# Altium integrated library NSC ADC.IntLib: 191 symbols (part 7 of 7)
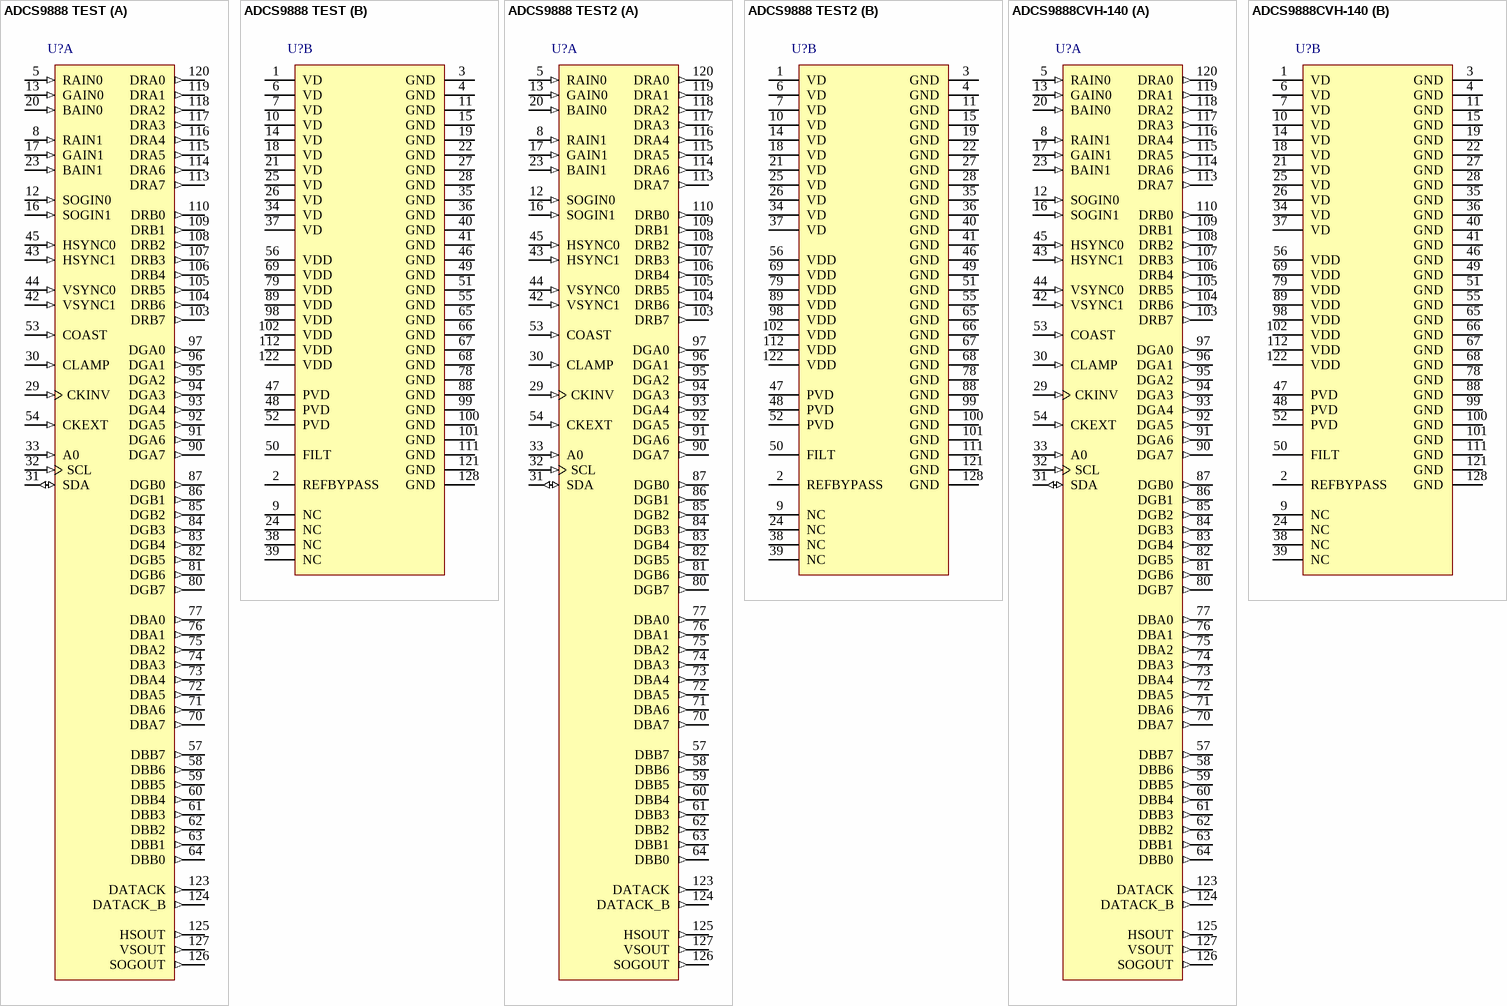
[diagram p21: symbols ADCS9888 TEST to ADCS9888CVH-140]

## ADCS9888 TEST2
designator U?
205/170/140 MSPS Video Analog Front End; PartNumber: ADCS9888 TEST2; Manufacturer: National Semiconductor; CompType: ADC IC; PackageTopMarking: NSUZXYYTTE#*ADCS9888 TEST2; Published: 4-Dec-2008; DatasheetVersion: Jun-2007; PackageVersion: revC, Jun-1998; PackageReference: VLA128A; Publisher: Altium Limited; PackageDescription: PQFP, (S), 14 x 20 x 2.7mm, 128 Lead; RoHS: N; PinCount: 128; ComponentLink1Description: ADCS9888 Datasheet; ComponentLink1URL: http://www.national.com/ds/AD/ADCS9888.pdf; ComponentLink2Description: ADCS9888 Web Page; ComponentLink2URL: http://www.national.com/pf/AD/ADCS9888.html; ComponentLink3Description: VLA128A Package Page; ComponentLink3URL: http://www.national.com/packaging/folders/vla128a.html
footprint VLA128A_N (Shrink QFP, 128-Leads, Body 20x14 mm, Pitch 0.5mm, IPC Medium Density)
footprint VLA128A_L (Shrink QFP, 128-Leads, Body 20x14 mm, Pitch 0.5mm, IPC High Density)
footprint VLA128A_M (Shrink QFP, 128-Leads, Body 20x14 mm, Pitch 0.5mm, IPC Low Density)
part A pins: 5 RAIN0 (in), 8 RAIN1 (in), 12 SOGIN0 (in), 13 GAIN0 (in), 16 SOGIN1 (in), 17 GAIN1 (in), 20 BAIN0 (in), 23 BAIN1 (in), 29 CKINV (in), 30 CLAMP (in), 31 SDA (io), 32 SCL (in), 33 A0 (in), 42 VSYNC1 (in), 43 HSYNC1 (in), 44 VSYNC0 (in), 45 HSYNC0 (in), 53 COAST (in), 54 CKEXT (in), 57 DBB7 (out), 58 DBB6 (out), 59 DBB5 (out), 60 DBB4 (out), 61 DBB3 (out), 62 DBB2 (out), 63 DBB1 (out), 64 DBB0 (out), 70 DBA7 (out), 71 DBA6 (out), 72 DBA5 (out), 73 DBA4 (out), 74 DBA3 (out), 75 DBA2 (out), 76 DBA1 (out), 77 DBA0 (out), 80 DGB7 (out), 81 DGB6 (out), 82 DGB5 (out), 83 DGB4 (out), 84 DGB3 (out), 85 DGB2 (out), 86 DGB1 (out), 87 DGB0 (out), 90 DGA7 (out), 91 DGA6 (out), 92 DGA5 (out), 93 DGA4 (out), 94 DGA3 (out), 95 DGA2 (out), 96 DGA1 (out), 97 DGA0 (out), 103 DRB7 (out), 104 DRB6 (out), 105 DRB5 (out), 106 DRB4 (out), 107 DRB3 (out), 108 DRB2 (out), 109 DRB1 (out), 110 DRB0 (out), 113 DRA7 (out), 114 DRA6 (out), 115 DRA5 (out), 116 DRA4 (out), 117 DRA3 (out), 118 DRA2 (out), 119 DRA1 (out), 120 DRA0 (out), 123 DATACK (out), 124 DATACK_B (out), 125 HSOUT (out), 126 SOGOUT (out), 127 VSOUT (out)
part B pins: 1 VD (power), 2 REFBYPASS, 3 GND (power), 4 GND (power), 6 VD (power), 7 VD (power), 9 NC, 10 VD (power), 11 GND (power), 14 VD (power), 15 GND (power), 18 VD (power), 19 GND (power), 21 VD (power), 22 GND (power), 24 NC, 25 VD (power), 26 VD (power), 27 GND (power), 28 GND (power), 34 VD (power), 35 GND (power), 36 GND (power), 37 VD (power), 38 NC, 39 NC, 40 GND (power), 41 GND (power), 46 GND (power), 47 PVD (power), 48 PVD (power), 49 GND (power), 50 FILT, 51 GND (power), 52 PVD (power), 55 GND (power), 56 VDD (power), 65 GND (power), 66 GND (power), 67 GND (power), 68 GND (power), 69 VDD (power), 78 GND (power), 79 VDD (power), 88 GND (power), 89 VDD (power), 98 VDD (power), 99 GND (power), 100 GND (power), 101 GND (power), 102 VDD (power), 111 GND (power), 112 VDD (power), 121 GND (power), 122 VDD (power), 128 GND (power)

## ADCS9888CVH-140
designator U?
205/170/140 MSPS Video Analog Front End; PartNumber: ADCS9888CVH-140; Manufacturer: National Semiconductor; CompType: ADC IC; PackageTopMarking: NSUZXYYTTE#*ADCS9888CVH*-140; Published: 4-Dec-2008; DatasheetVersion: Dec-2003; PackageVersion: revC, Jun-1998; PackageReference: VLA128A; Publisher: Altium Limited; PackageDescription: PQFP, (S), 14 x 20 x 2.7mm, 128 Lead; RoHS: Y; PinCount: 128; DigiKeyPartNumber: ADCS9888CVH-140-ND; ComponentLink1Description: ADCS9888 Datasheet; ComponentLink1URL: http://www.national.com/ds/AD/ADCS9888.pdf; ComponentLink2Description: ADCS9888 Web Page; ComponentLink2URL: http://www.national.com/pf/AD/ADCS9888.html; ComponentLink3Description: VLA128A Package Page; ComponentLink3URL: http://www.national.com/packaging/folders/vla128a.html
footprint VLA128A_N (Shrink QFP, 128-Leads, Body 20x14 mm, Pitch 0.5mm, IPC Medium Density)
footprint VLA128A_L (Shrink QFP, 128-Leads, Body 20x14 mm, Pitch 0.5mm, IPC High Density)
footprint VLA128A_M (Shrink QFP, 128-Leads, Body 20x14 mm, Pitch 0.5mm, IPC Low Density)
part A pins: 5 RAIN0 (in), 8 RAIN1 (in), 12 SOGIN0 (in), 13 GAIN0 (in), 16 SOGIN1 (in), 17 GAIN1 (in), 20 BAIN0 (in), 23 BAIN1 (in), 29 CKINV (in), 30 CLAMP (in), 31 SDA (io), 32 SCL (in), 33 A0 (in), 42 VSYNC1 (in), 43 HSYNC1 (in), 44 VSYNC0 (in), 45 HSYNC0 (in), 53 COAST (in), 54 CKEXT (in), 57 DBB7 (out), 58 DBB6 (out), 59 DBB5 (out), 60 DBB4 (out), 61 DBB3 (out), 62 DBB2 (out), 63 DBB1 (out), 64 DBB0 (out), 70 DBA7 (out), 71 DBA6 (out), 72 DBA5 (out), 73 DBA4 (out), 74 DBA3 (out), 75 DBA2 (out), 76 DBA1 (out), 77 DBA0 (out), 80 DGB7 (out), 81 DGB6 (out), 82 DGB5 (out), 83 DGB4 (out), 84 DGB3 (out), 85 DGB2 (out), 86 DGB1 (out), 87 DGB0 (out), 90 DGA7 (out), 91 DGA6 (out), 92 DGA5 (out), 93 DGA4 (out), 94 DGA3 (out), 95 DGA2 (out), 96 DGA1 (out), 97 DGA0 (out), 103 DRB7 (out), 104 DRB6 (out), 105 DRB5 (out), 106 DRB4 (out), 107 DRB3 (out), 108 DRB2 (out), 109 DRB1 (out), 110 DRB0 (out), 113 DRA7 (out), 114 DRA6 (out), 115 DRA5 (out), 116 DRA4 (out), 117 DRA3 (out), 118 DRA2 (out), 119 DRA1 (out), 120 DRA0 (out), 123 DATACK (out), 124 DATACK_B (out), 125 HSOUT (out), 126 SOGOUT (out), 127 VSOUT (out)
part B pins: 1 VD (power), 2 REFBYPASS, 3 GND (power), 4 GND (power), 6 VD (power), 7 VD (power), 9 NC, 10 VD (power), 11 GND (power), 14 VD (power), 15 GND (power), 18 VD (power), 19 GND (power), 21 VD (power), 22 GND (power), 24 NC, 25 VD (power), 26 VD (power), 27 GND (power), 28 GND (power), 34 VD (power), 35 GND (power), 36 GND (power), 37 VD (power), 38 NC, 39 NC, 40 GND (power), 41 GND (power), 46 GND (power), 47 PVD (power), 48 PVD (power), 49 GND (power), 50 FILT, 51 GND (power), 52 PVD (power), 55 GND (power), 56 VDD (power), 65 GND (power), 66 GND (power), 67 GND (power), 68 GND (power), 69 VDD (power), 78 GND (power), 79 VDD (power), 88 GND (power), 89 VDD (power), 98 VDD (power), 99 GND (power), 100 GND (power), 101 GND (power), 102 VDD (power), 111 GND (power), 112 VDD (power), 121 GND (power), 122 VDD (power), 128 GND (power)

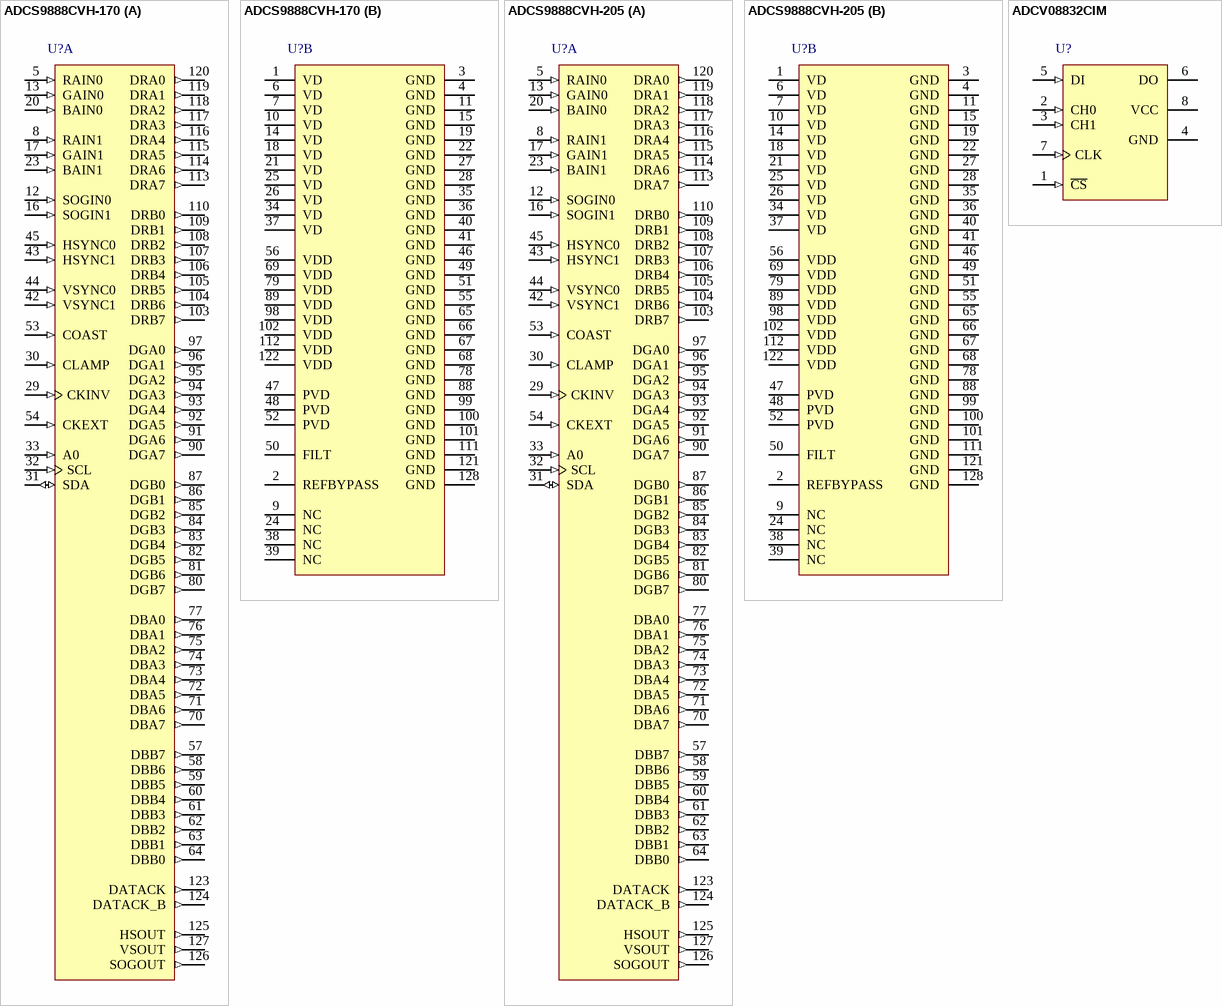
[diagram p15: symbols ADCS9888CVH-170 to ADCV08832CIM]

## ADCS9888CVH-170
designator U?
205/170/140 MSPS Video Analog Front End; PartNumber: ADCS9888CVH-170; Manufacturer: National Semiconductor; CompType: ADC IC; PackageTopMarking: NSUZXYYTTE#*ADCS9888CVH*-170; Published: 4-Dec-2008; DatasheetVersion: Dec-2003; PackageVersion: revC, Jun-1998; PackageReference: VLA128A; Publisher: Altium Limited; PackageDescription: PQFP, (S), 14 x 20 x 2.7mm, 128 Lead; RoHS: O; PinCount: 128; DigiKeyPartNumber: ADCS9888CVH-170-ND; ComponentLink1Description: ADCS9888 Datasheet; ComponentLink1URL: http://www.national.com/ds/AD/ADCS9888.pdf; ComponentLink2Description: ADCS9888 Web Page; ComponentLink2URL: http://www.national.com/pf/AD/ADCS9888.html; ComponentLink3Description: VLA128A Package Page; ComponentLink3URL: http://www.national.com/packaging/folders/vla128a.html
footprint VLA128A_N (Shrink QFP, 128-Leads, Body 20x14 mm, Pitch 0.5mm, IPC Medium Density)
footprint VLA128A_L (Shrink QFP, 128-Leads, Body 20x14 mm, Pitch 0.5mm, IPC High Density)
footprint VLA128A_M (Shrink QFP, 128-Leads, Body 20x14 mm, Pitch 0.5mm, IPC Low Density)
part A pins: 5 RAIN0 (in), 8 RAIN1 (in), 12 SOGIN0 (in), 13 GAIN0 (in), 16 SOGIN1 (in), 17 GAIN1 (in), 20 BAIN0 (in), 23 BAIN1 (in), 29 CKINV (in), 30 CLAMP (in), 31 SDA (io), 32 SCL (in), 33 A0 (in), 42 VSYNC1 (in), 43 HSYNC1 (in), 44 VSYNC0 (in), 45 HSYNC0 (in), 53 COAST (in), 54 CKEXT (in), 57 DBB7 (out), 58 DBB6 (out), 59 DBB5 (out), 60 DBB4 (out), 61 DBB3 (out), 62 DBB2 (out), 63 DBB1 (out), 64 DBB0 (out), 70 DBA7 (out), 71 DBA6 (out), 72 DBA5 (out), 73 DBA4 (out), 74 DBA3 (out), 75 DBA2 (out), 76 DBA1 (out), 77 DBA0 (out), 80 DGB7 (out), 81 DGB6 (out), 82 DGB5 (out), 83 DGB4 (out), 84 DGB3 (out), 85 DGB2 (out), 86 DGB1 (out), 87 DGB0 (out), 90 DGA7 (out), 91 DGA6 (out), 92 DGA5 (out), 93 DGA4 (out), 94 DGA3 (out), 95 DGA2 (out), 96 DGA1 (out), 97 DGA0 (out), 103 DRB7 (out), 104 DRB6 (out), 105 DRB5 (out), 106 DRB4 (out), 107 DRB3 (out), 108 DRB2 (out), 109 DRB1 (out), 110 DRB0 (out), 113 DRA7 (out), 114 DRA6 (out), 115 DRA5 (out), 116 DRA4 (out), 117 DRA3 (out), 118 DRA2 (out), 119 DRA1 (out), 120 DRA0 (out), 123 DATACK (out), 124 DATACK_B (out), 125 HSOUT (out), 126 SOGOUT (out), 127 VSOUT (out)
part B pins: 1 VD (power), 2 REFBYPASS, 3 GND (power), 4 GND (power), 6 VD (power), 7 VD (power), 9 NC, 10 VD (power), 11 GND (power), 14 VD (power), 15 GND (power), 18 VD (power), 19 GND (power), 21 VD (power), 22 GND (power), 24 NC, 25 VD (power), 26 VD (power), 27 GND (power), 28 GND (power), 34 VD (power), 35 GND (power), 36 GND (power), 37 VD (power), 38 NC, 39 NC, 40 GND (power), 41 GND (power), 46 GND (power), 47 PVD (power), 48 PVD (power), 49 GND (power), 50 FILT, 51 GND (power), 52 PVD (power), 55 GND (power), 56 VDD (power), 65 GND (power), 66 GND (power), 67 GND (power), 68 GND (power), 69 VDD (power), 78 GND (power), 79 VDD (power), 88 GND (power), 89 VDD (power), 98 VDD (power), 99 GND (power), 100 GND (power), 101 GND (power), 102 VDD (power), 111 GND (power), 112 VDD (power), 121 GND (power), 122 VDD (power), 128 GND (power)

## ADCS9888CVH-205
designator U?
205/170/140 MSPS Video Analog Front End; PartNumber: ADCS9888CVH-205; Manufacturer: National Semiconductor; CompType: ADC IC; PackageTopMarking: NSUZXYYTTE#*ADCS9888CVH*-205; Published: 4-Dec-2008; DatasheetVersion: Dec-2003; PackageVersion: revC, Jun-1998; PackageReference: VLA128A; Publisher: Altium Limited; PackageDescription: PQFP, (S), 14 x 20 x 2.7mm, 128 Lead; RoHS: Y; PinCount: 128; DigiKeyPartNumber: ADCS9888CVH-205-ND; ComponentLink1Description: ADCS9888 Datasheet; ComponentLink1URL: http://www.national.com/ds/AD/ADCS9888.pdf; ComponentLink2Description: ADCS9888 Web Page; ComponentLink2URL: http://www.national.com/pf/AD/ADCS9888.html; ComponentLink3Description: VLA128A Package Page; ComponentLink3URL: http://www.national.com/packaging/folders/vla128a.html
footprint VLA128A_N (Shrink QFP, 128-Leads, Body 20x14 mm, Pitch 0.5mm, IPC Medium Density)
footprint VLA128A_L (Shrink QFP, 128-Leads, Body 20x14 mm, Pitch 0.5mm, IPC High Density)
footprint VLA128A_M (Shrink QFP, 128-Leads, Body 20x14 mm, Pitch 0.5mm, IPC Low Density)
part A pins: 5 RAIN0 (in), 8 RAIN1 (in), 12 SOGIN0 (in), 13 GAIN0 (in), 16 SOGIN1 (in), 17 GAIN1 (in), 20 BAIN0 (in), 23 BAIN1 (in), 29 CKINV (in), 30 CLAMP (in), 31 SDA (io), 32 SCL (in), 33 A0 (in), 42 VSYNC1 (in), 43 HSYNC1 (in), 44 VSYNC0 (in), 45 HSYNC0 (in), 53 COAST (in), 54 CKEXT (in), 57 DBB7 (out), 58 DBB6 (out), 59 DBB5 (out), 60 DBB4 (out), 61 DBB3 (out), 62 DBB2 (out), 63 DBB1 (out), 64 DBB0 (out), 70 DBA7 (out), 71 DBA6 (out), 72 DBA5 (out), 73 DBA4 (out), 74 DBA3 (out), 75 DBA2 (out), 76 DBA1 (out), 77 DBA0 (out), 80 DGB7 (out), 81 DGB6 (out), 82 DGB5 (out), 83 DGB4 (out), 84 DGB3 (out), 85 DGB2 (out), 86 DGB1 (out), 87 DGB0 (out), 90 DGA7 (out), 91 DGA6 (out), 92 DGA5 (out), 93 DGA4 (out), 94 DGA3 (out), 95 DGA2 (out), 96 DGA1 (out), 97 DGA0 (out), 103 DRB7 (out), 104 DRB6 (out), 105 DRB5 (out), 106 DRB4 (out), 107 DRB3 (out), 108 DRB2 (out), 109 DRB1 (out), 110 DRB0 (out), 113 DRA7 (out), 114 DRA6 (out), 115 DRA5 (out), 116 DRA4 (out), 117 DRA3 (out), 118 DRA2 (out), 119 DRA1 (out), 120 DRA0 (out), 123 DATACK (out), 124 DATACK_B (out), 125 HSOUT (out), 126 SOGOUT (out), 127 VSOUT (out)
part B pins: 1 VD (power), 2 REFBYPASS, 3 GND (power), 4 GND (power), 6 VD (power), 7 VD (power), 9 NC, 10 VD (power), 11 GND (power), 14 VD (power), 15 GND (power), 18 VD (power), 19 GND (power), 21 VD (power), 22 GND (power), 24 NC, 25 VD (power), 26 VD (power), 27 GND (power), 28 GND (power), 34 VD (power), 35 GND (power), 36 GND (power), 37 VD (power), 38 NC, 39 NC, 40 GND (power), 41 GND (power), 46 GND (power), 47 PVD (power), 48 PVD (power), 49 GND (power), 50 FILT, 51 GND (power), 52 PVD (power), 55 GND (power), 56 VDD (power), 65 GND (power), 66 GND (power), 67 GND (power), 68 GND (power), 69 VDD (power), 78 GND (power), 79 VDD (power), 88 GND (power), 89 VDD (power), 98 VDD (power), 99 GND (power), 100 GND (power), 101 GND (power), 102 VDD (power), 111 GND (power), 112 VDD (power), 121 GND (power), 122 VDD (power), 128 GND (power)

## ADCV08832CIM
designator U?
Low Voltage, 8-Bit Serial I/O CMOS A/D Converter With Sample/Hold; PartNumber: ADCV08832CIM; Manufacturer: National Semiconductor; CompType: ADC IC; PackageTopMarking: NSZXTT*ADCV0*8832I; Published: 4-Dec-2008; DatasheetVersion: Jan-2001; PackageVersion: revL, Sep-2006; PackageReference: M08A; Publisher: Altium Limited; PackageDescription: SOIC Narrow, 4.9 x 3.9 x 1.45mm, 8 Lead, 1.27mm Pitch; RoHS: O; PinCount: 8; DigiKeyPartNumber: ADCV08832CIM-ND; Code_JEDEC: MS-012-AA; Code_IPC: SOIC127P600-8; ComponentLink1Description: ADCV08832 Datasheet; ComponentLink1URL: http://www.national.com/ds/AD/ADCV08832.pdf; ComponentLink2Description: ADCV08832 Web Page; ComponentLink2URL: http://www.national.com/pf/AD/ADCV08832.html; ComponentLink3Description: M08A Package Page; ComponentLink3URL: http://www.national.com/packaging/folders/m08a.html
footprint M08A_N (SOIC, 8-Leads, Body 4.9x3.9mm, Pitch 1.27mm, IPC Medium Density)
footprint M08A_L (SOIC, 8-Leads, Body 4.9x3.9mm, Pitch 1.27mm, IPC High Density)
footprint M08A_M (SOIC, 8-Leads, Body 4.9x3.9mm, Pitch 1.27mm, IPC Low Density)
pins: 1 ~{CS} (in), 2 CH0 (in), 3 CH1 (in), 4 GND (power), 5 DI (in), 6 DO (hiz), 7 CLK (in), 8 VCC (power)